# Altium schematic symbol library BAV756S.SchLib: 1 symbol
Pins are listed as number, name and electrical type; pins without a type are passive.

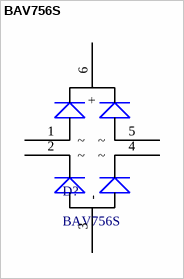
[diagram p0: symbol BAV756S]

## BAV756S
designator D?
footprint SOT65P210X110-6N (SOT23, 6-Leads, Body 2,00x2,10mm, Pitch 0,65mm, IPC Medium Density)
pins: 1 ~, 2 ~, 3 -, 4 ~, 5 ~, 6 +